# Altium footprint library spacer_m2.5_h16.PcbLib: 1 footprints
Each footprint in its own frame and in the unit in brackets; x right, y up, seen from the top. Pads: shape width x height; smd on the part's side, far side on the other; paste and mask are expansions set on the pad; w line width, h text height; cw(c..) or ccw(c..) is an arc to the next point about the centre after c.
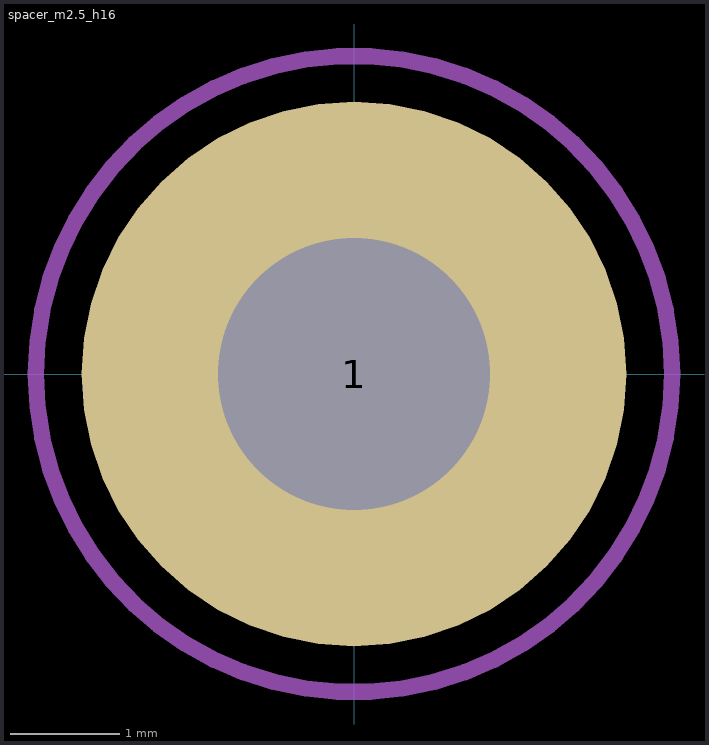
[diagram p0: the footprint, top view; thin cyan lines are the x and y axes]

## spacer_m2.5_h16 [mm]
pads (1):
  round 5 hole 2.5: 1(0,0)
Top Designator:
  text ".Designator" at -2.919,3.421 h1.5
Mechanical 13:
  circle w0.15: c0,0 r2.921
3D body "hexagonal_spacer_MF_M2.5_H16_HEX5_FTD6_MTL6.step": height 22, standoff 0, extent -2.89,-2.503 2.89,2.503